# Altium footprint library Resistor_DIP.PcbLib: 69 footprints (part 3 of 5)
Each footprint in its own frame and in the unit in brackets; x right, y up, seen from the top. Pads: shape width x height; smd on the part's side, far side on the other; paste and mask are expansions set on the pad; w line width, h text height; cw(c..) or ccw(c..) is an arc to the next point about the centre after c.
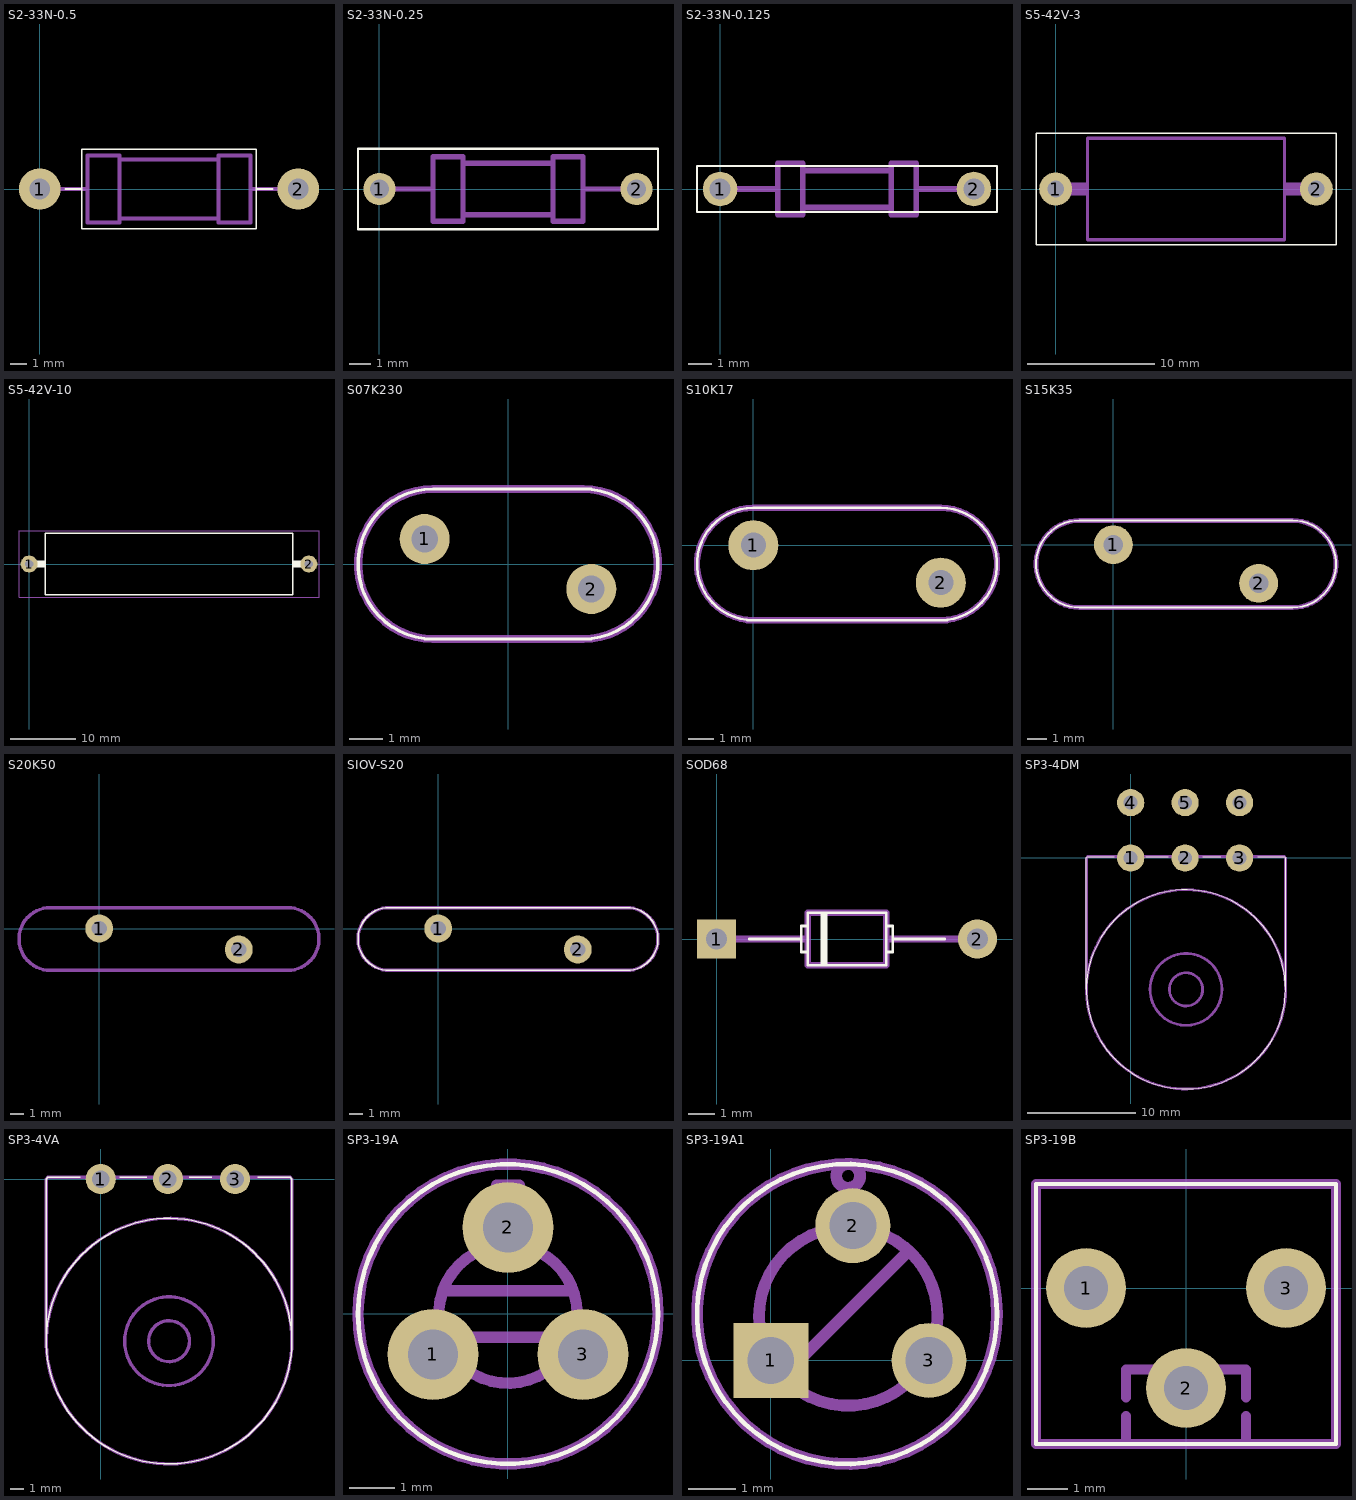
[diagram p2: the footprints below, top view; thin cyan lines are the x and y axes]

## S2-33N-0.5 [mm]
pads (2):
  round 2.6 hole 1.3: 1(0,0) 2(16.2,0)
Top Overlay:
  lines w0.1: 1.6,0 2.62,0 ; 13.58,0 14.6,0 ; 2.62,-2.48 13.58,-2.48 13.58,2.48 2.62,2.48 2.62,-2.48
Mechanical 1:
  lines w0.25: 0,0 3,0 ; 5,-1.85 11.2,-1.85 ; 5,1.85 11.2,1.85 ; 13.2,0 16.2,0 ; 3,-2.1 3,2.1 5,2.1 5,-2.1 3,-2.1 ; 11.2,-2.1 11.2,2.1 13.2,2.1 13.2,-2.1 11.2,-2.1

## S2-33N-0.25 [mm]
pads (2):
  round 1.5 hole 0.9: 1(0,0) 2(12,0)
Top Overlay:
  lines w0.1: -1,-1.88 13,-1.88 13,1.88 -1,1.88 -1,-1.88
Mechanical 1:
  lines w0.25: 0,0 2.5,0 ; 3.9,-1.2 8.1,-1.2 ; 3.9,1.2 8.1,1.2 ; 9.5,0 12,0 ; 2.5,-1.5 2.5,1.5 3.9,1.5 3.9,-1.5 2.5,-1.5 ; 8.1,-1.5 8.1,1.5 9.5,1.5 9.5,-1.5 8.1,-1.5

## S2-33N-0.125 [mm]
pads (2):
  round 1.5 hole 0.9: 1(0,0) 2(11,0)
Top Overlay:
  lines w0.1: -1,-1 12,-1 12,1 -1,1 -1,-1
Mechanical 1:
  lines w0.25: 0,0 2.5,0 ; 3.58,-0.8 7.42,-0.8 ; 3.58,0.8 7.42,0.8 ; 8.5,0 11,0 ; 2.5,-1.1 2.5,1.1 3.58,1.1 3.58,-1.1 2.5,-1.1 ; 7.42,-1.1 7.42,1.1 8.5,1.1 8.5,-1.1 7.42,-1.1

## S5-42V-3 [mm]
pads (2):
  round 2.6 hole 1.3: 1(0,0) 2(20.5,0)
Top Overlay:
  lines w0.1: -1.55,-4.38 22.05,-4.38 22.05,4.38 -1.55,4.38 -1.55,-4.38
Mechanical 1:
  region: 18,-0.5 20.5,-0.5 20.5,0.5 18,0.5
  region: 0,-0.5 2.5,-0.5 2.5,0.5 0,0.5
  lines w0.254: 2.5,-4 18,-4 18,4 2.5,4 2.5,-4

## S5-42V-10 [mm]
pads (2):
  round 2.6 hole 1.3: 1(0,0) 2(43,0)
Top Overlay:
  region: 43,0.5 40.5,0.5 40.5,-0.5 43,-0.5
  region: 0,-0.5 2.5,-0.5 2.5,0.5 0,0.5
  lines w0.254: 2.5,-4.75 40.5,-4.75 40.5,4.75 2.5,4.75 2.5,-4.75
Mechanical 1:
  lines w0.1: -1.55,-5.13 44.55,-5.13 44.55,5.13 -1.55,5.13 -1.55,-5.13

## S07K230 [mm]
pads (2):
  round 1.5 hole 0.8: 1(-2.5,0.75) 2(2.5,-0.75)
Top Overlay:
  lines w0.1: -2.5,-2.25 2.5,-2.25 ; -2.25,-2.25 cw(c-2.25,0) -2.25,2.25 2.5,2.25 ; 2.25,-2.25 ccw(c2.25,0) 2.25,2.25
Mechanical 1:
  lines w0.25: -2.25,-2.25 cw(c-2.25,0) -2.25,2.25 2.25,2.25 cw(c2.25,0) 2.25,-2.25 -2.25,-2.25

## S10K17 [mm]
pads (2):
  round 2 hole 1: 1(0,0) 2(7.5,-1.5)
Top Overlay:
  lines w0.1: -0.25,-3 7.75,-3 ; 0,-3 cw(c0,-0.75) 0,1.5 7.5,1.5 cw(c7.5,-0.75) 7.5,-3
Mechanical 1:
  lines w0.25: -0.25,-3 7.75,-3 ; 0,-3 cw(c0,-0.75) 0,1.5 7.5,1.5 cw(c7.5,-0.75) 7.5,-3

## S15K35 [mm]
pads (2):
  round 2 hole 1: 1(0,0) 2(7.5,-2)
Top Overlay:
  lines w0.1: -1.75,-3.25 cw(c-1.75,-1) -1.75,1.25 9.25,1.25 cw(c9.25,-1) 9.25,-3.25 -1.75,-3.25
Mechanical 1:
  lines w0.25: -1.75,-3.25 cw(c-1.75,-1) -1.75,1.25 9.25,1.25 cw(c9.25,-1) 9.25,-3.25 -1.75,-3.25

## S20K50 [mm]
pads (2):
  round 2 hole 1.1: 1(0,0) 2(10,-1.5)
Mechanical 1:
  lines w0.25: -3.75,-3 13.75,-3 ; -3.75,1.5 13.5,1.5 cw(c13.5,-0.75) 13.5,-3 ; -3.5,-3 cw(c-3.5,-0.75) -3.5,1.5

## SIOV-S20 [mm]
pads (2):
  round 2 hole 1.1: 1(0,0) 2(10,-1.5)
Top Overlay:
  lines w0.1: -3.75,-3 13.75,-3 ; -3.75,1.5 13.5,1.5 cw(c13.5,-0.75) 13.5,-3 ; -3.5,-3 cw(c-3.5,-0.75) -3.5,1.5
Mechanical 1:
  lines w0.25: -3.75,-3 13.75,-3 ; -3.75,1.5 13.5,1.5 cw(c13.5,-0.75) 13.5,-3 ; -3.5,-3 cw(c-3.5,-0.75) -3.5,1.5

## SOD68 [mm]
pads (2):
  rect 1.5x1.5 hole 0.8: 1(0,0)
  round 1.5 hole 0.8: 2(10,0)
Top Overlay:
  region: 4,1 4,-1 4.25,-1 4.25,1
  lines w0.1: 1.25,0 3.25,0 ; 3.5,-0.5 3.25,-0.5 3.25,0.5 3.5,0.5 ; 6.5,-0.5 6.75,-0.5 6.75,0.5 6.5,0.5 ; 6.75,0 8.75,0 ; 3.5,-1 6.5,-1 6.5,1 3.5,1 3.5,-1
Mechanical 1:
  lines w0.25: 0,0 3.5,0 ; 6.5,0 10,0 ; 3.5,-1 6.5,-1 6.5,1 3.5,1 3.5,-1

## SP3-4DM [mm]
pads (6):
  round 2.5 hole 1.3: 1(0,0) 2(5,0) 3(10,0) 4(0,5.08) 5(5,5.08) 6(10,5.08)
Top Overlay:
  circle w0.1: c5.08,-12.065 r9.144
  lines w0.1: -4.064,-12.065 -4.064,0 -3.937,0.127 -1.524,0.127 ; 1.397,0.127 3.429,0.127 ; 6.604,0.127 8.255,0.127 ; 11.684,0.127 14.097,0.127 14.224,0 14.224,-12.065
Mechanical 1:
  circle w0.25: c5.08,-12.065 r9.144
  circle w0.25: c5.08,-12.065 r3.302
  circle w0.25: c5.08,-12.065 r1.524
  lines w0.25: -4.064,-12.065 -4.064,0 -3.937,0.127 14.097,0.127 14.224,0 14.224,-12.065

## SP3-4VA [mm]
pads (3):
  round 2.25 hole 1.3: 1(0,0) 2(5,0) 3(10,0)
Top Overlay:
  circle w0.1: c5.08,-12.065 r9.144
  lines w0.1: -4.064,-12.065 -4.064,0 -3.937,0.127 -1.524,0.127 ; 1.397,0.127 3.429,0.127 ; 6.604,0.127 8.255,0.127 ; 11.684,0.127 14.097,0.127 14.224,0 14.224,-12.065
Mechanical 1:
  circle w0.25: c5.08,-12.065 r9.144
  circle w0.25: c5.08,-12.065 r3.302
  circle w0.25: c5.08,-12.065 r1.524
  lines w0.25: -4.064,-12.065 -4.064,0 -3.937,0.127 14.097,0.127 14.224,0 14.224,-12.065

## SP3-19A [mm]
pads (3):
  round 2 hole 1.1: 1(-1.651,-0.889) 2(0,1.905) 3(1.651,-0.889)
Top Overlay:
  circle w0.1: c0,0 r3.302
  lines w0.229: 1.397,-0.762 1.397,-0.508
Mechanical 1:
  circle w0.25: c0,0 r3.302
  circle w0.25: c0,0 r1.524
  lines w0.25: -1.524,-0.508 1.397,-0.508 ; -1.397,0.508 1.397,0.508 ; -0.254,2.331 0.246,2.331 0.246,2.831 -0.254,2.831 -0.254,2.331

## SP3-19A1 [mm]
pads (3):
  rect 1.6x1.6 hole 1: 1(0,0)
  round 1.6 hole 1: 2(1.75,2.875) 3(3.375,0)
Top Overlay:
  circle w0.1: c1.626,0.991 r3.2
Mechanical 1:
  circle w0.25: c1.626,0.991 r3.2
  circle w0.25: c1.651,0.94 r1.905
  circle w0.25: c1.651,3.937 r0.254
  lines w0.25: 0.279,-0.33 2.946,2.337

## SP3-19B [mm]
pads (3):
  round 2 hole 1.1: 1(-2.5,0) 2(0,-2.5) 3(2.5,0)
Top Overlay:
  lines w0.1: -3.75,-3.9 3.75,-3.9 3.75,2.6 -3.75,2.6 -3.75,-3.9
Mechanical 1:
  lines w0.25: -1.5,-3.9 -1.5,-3.2 ; -1.5,-2.74 -1.5,-2.04 -0.8,-2.04 ; -0.34,-2.04 0.36,-2.04 ; 0.8,-2.04 1.5,-2.04 1.5,-2.74 ; 1.5,-3.9 1.5,-3.2 ; -3.75,-3.9 3.75,-3.9 3.75,2.6 -3.75,2.6 -3.75,-3.9